# EAGLE library part W5100 (library FansElectronics-Wiznet)
W5100 IC Ethernet Shield
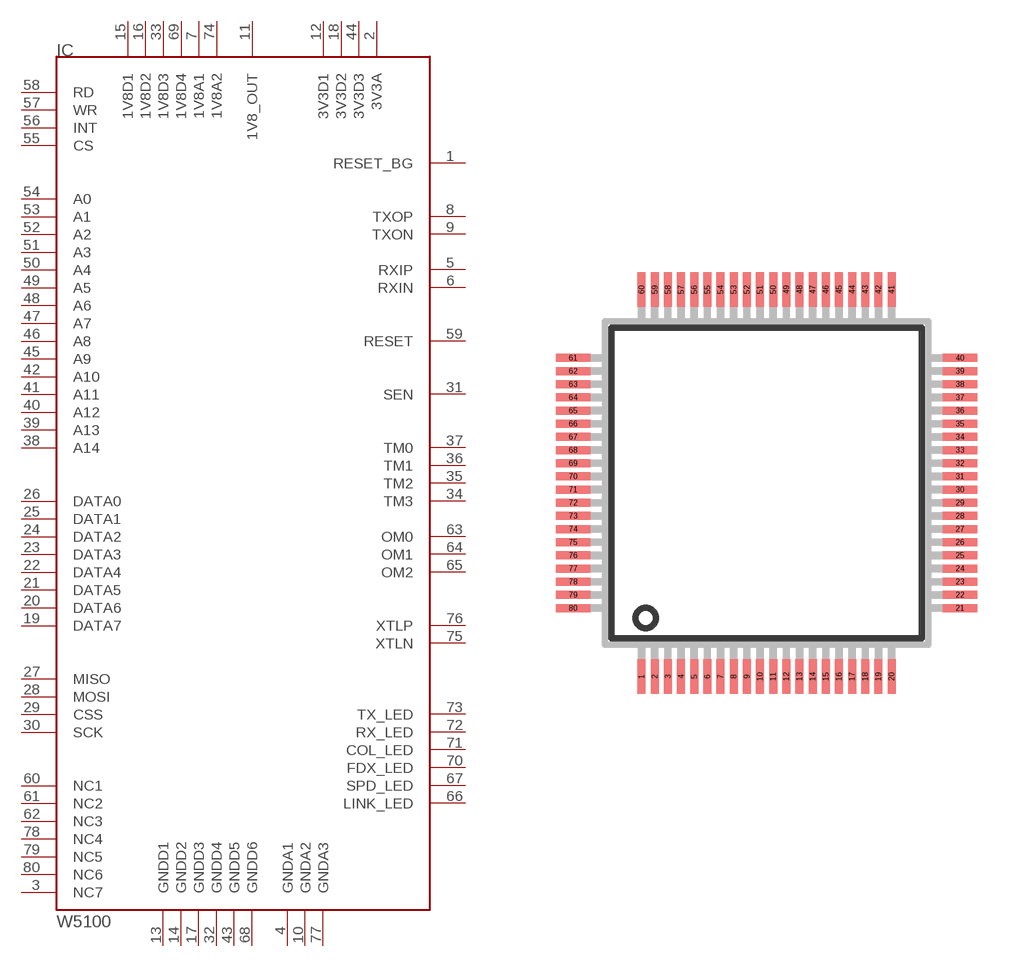
[diagram p2: symbol with the pads of SQFP-S-10X10-80; footprint SQFP-S-10X10-80]

Designator prefix IC

## W5100  [SQFP-S-10X10-80]
1  RESET_BG
2  3V3A
3  NC7
4  GNDA1
5  RXIP
6  RXIN
7  1V8A1
8  TXOP
9  TXON
10  GNDA2
11  1V8_OUT
12  3V3D1
13  GNDD1
14  GNDD2
15  1V8D1
16  1V8D2
17  GNDD3
18  3V3D2
19  DATA7
20  DATA6
21  DATA5
22  DATA4
23  DATA3
24  DATA2
25  DATA1
26  DATA0
27  MISO
28  MOSI
29  CSS
30  SCK
31  SEN
32  GNDD4
33  1V8D3
34  TM3
35  TM2
36  TM1
37  TM0
38  A14
39  A13
40  A12
41  A11
42  A10
43  GNDD5
44  3V3D3
45  A9
46  A8
47  A7
48  A6
49  A5
50  A4
51  A3
52  A2
53  A1
54  A0
55  CS
56  INT
57  WR
58  RD
59  RESET
60  NC1
61  NC2
62  NC3
63  OM0
64  OM1
65  OM2
66  LINK_LED
67  SPD_LED
68  GNDD6
69  1V8D4
70  FDX_LED
71  COL_LED
72  RX_LED
73  TX_LED
74  1V8A2
75  XTLN
76  XTLP
77  GNDA3
78  NC4
79  NC5
80  NC6

## Footprint SQFP-S-10X10-80 (pad centres in mm)
QFP80 shrink quad flat pack, square
smd 0.241 x 1.041: 1 -3.8,-5.879; 2 -3.4,-5.879; 3 -3,-5.879; 4 -2.6,-5.879; 5 -2.2,-5.879; 6 -1.8,-5.879; 7 -1.4,-5.879; 8 -1,-5.879; 9 -0.6,-5.879; 10 -0.2,-5.879; 11 0.2,-5.879; 12 0.6,-5.879; 13 1,-5.879; 14 1.4,-5.879; 15 1.8,-5.879; 16 2.2,-5.879; 17 2.6,-5.879; 18 3,-5.879; 19 3.4,-5.879; 20 3.8,-5.879; 41 3.8,5.879; 42 3.4,5.879; 43 3,5.879; 44 2.6,5.879; 45 2.2,5.879; 46 1.8,5.879; 47 1.4,5.879; 48 1,5.879; 49 0.6,5.879; 50 0.2,5.879; 51 -0.2,5.879; 52 -0.6,5.879; 53 -1,5.879; 54 -1.4,5.879; 55 -1.8,5.879; 56 -2.2,5.879; 57 -2.6,5.879; 58 -3,5.879; 59 -3.4,5.879; 60 -3.8,5.879
smd 1.041 x 0.241: 21 5.879,-3.8; 22 5.879,-3.4; 23 5.879,-3; 24 5.879,-2.6; 25 5.879,-2.2; 26 5.879,-1.8; 27 5.879,-1.4; 28 5.879,-1; 29 5.879,-0.6; 30 5.879,-0.2; 31 5.879,0.2; 32 5.879,0.6; 33 5.879,1; 34 5.879,1.4; 35 5.879,1.8; 36 5.879,2.2; 37 5.879,2.6; 38 5.879,3; 39 5.879,3.4; 40 5.879,3.8; 61 -5.879,3.8; 62 -5.879,3.4; 63 -5.879,3; 64 -5.879,2.6; 65 -5.879,2.2; 66 -5.879,1.8; 67 -5.879,1.4; 68 -5.879,1; 69 -5.879,0.6; 70 -5.879,0.2; 71 -5.879,-0.2; 72 -5.879,-0.6; 73 -5.879,-1; 74 -5.879,-1.4; 75 -5.879,-1.8; 76 -5.879,-2.2; 77 -5.879,-2.6; 78 -5.879,-3; 79 -5.879,-3.4; 80 -5.879,-3.8